# Altium schematic symbol library TPS7A0233PDBVR.SchLib: 1 symbol
Pins are listed as number, name and electrical type; pins without a type are passive.

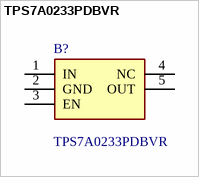
[diagram p0: symbol TPS7A0233PDBVR]

## TPS7A0233PDBVR
designator B?
Low-Dropout Voltage Regulator; Manufacturer_Name: Texas Instruments; Geometry.Height: 1.45mm; Mouser Part Number: 595-TPS7A0233PDBVR; Mouser Price/Stock: https://www.mouser.co.uk/ProductDetail/Texas-Instruments/TPS7A0233PDBVR?qs=OlC7AqGiEDmMDf5GlW%2FWnQ%3D%3D; Manufacturer_Part_Number: TPS7A0233PDBVR; Datasheet Link: https://www.ti.com/lit/gpn/TPS7A02
footprint SOT95P280X145-5N
pins: 1 IN, 2 GND, 3 EN, 4 NC, 5 OUT